# Altium schematic symbol library IC.SchLib: 114 symbols (part 3 of 3)
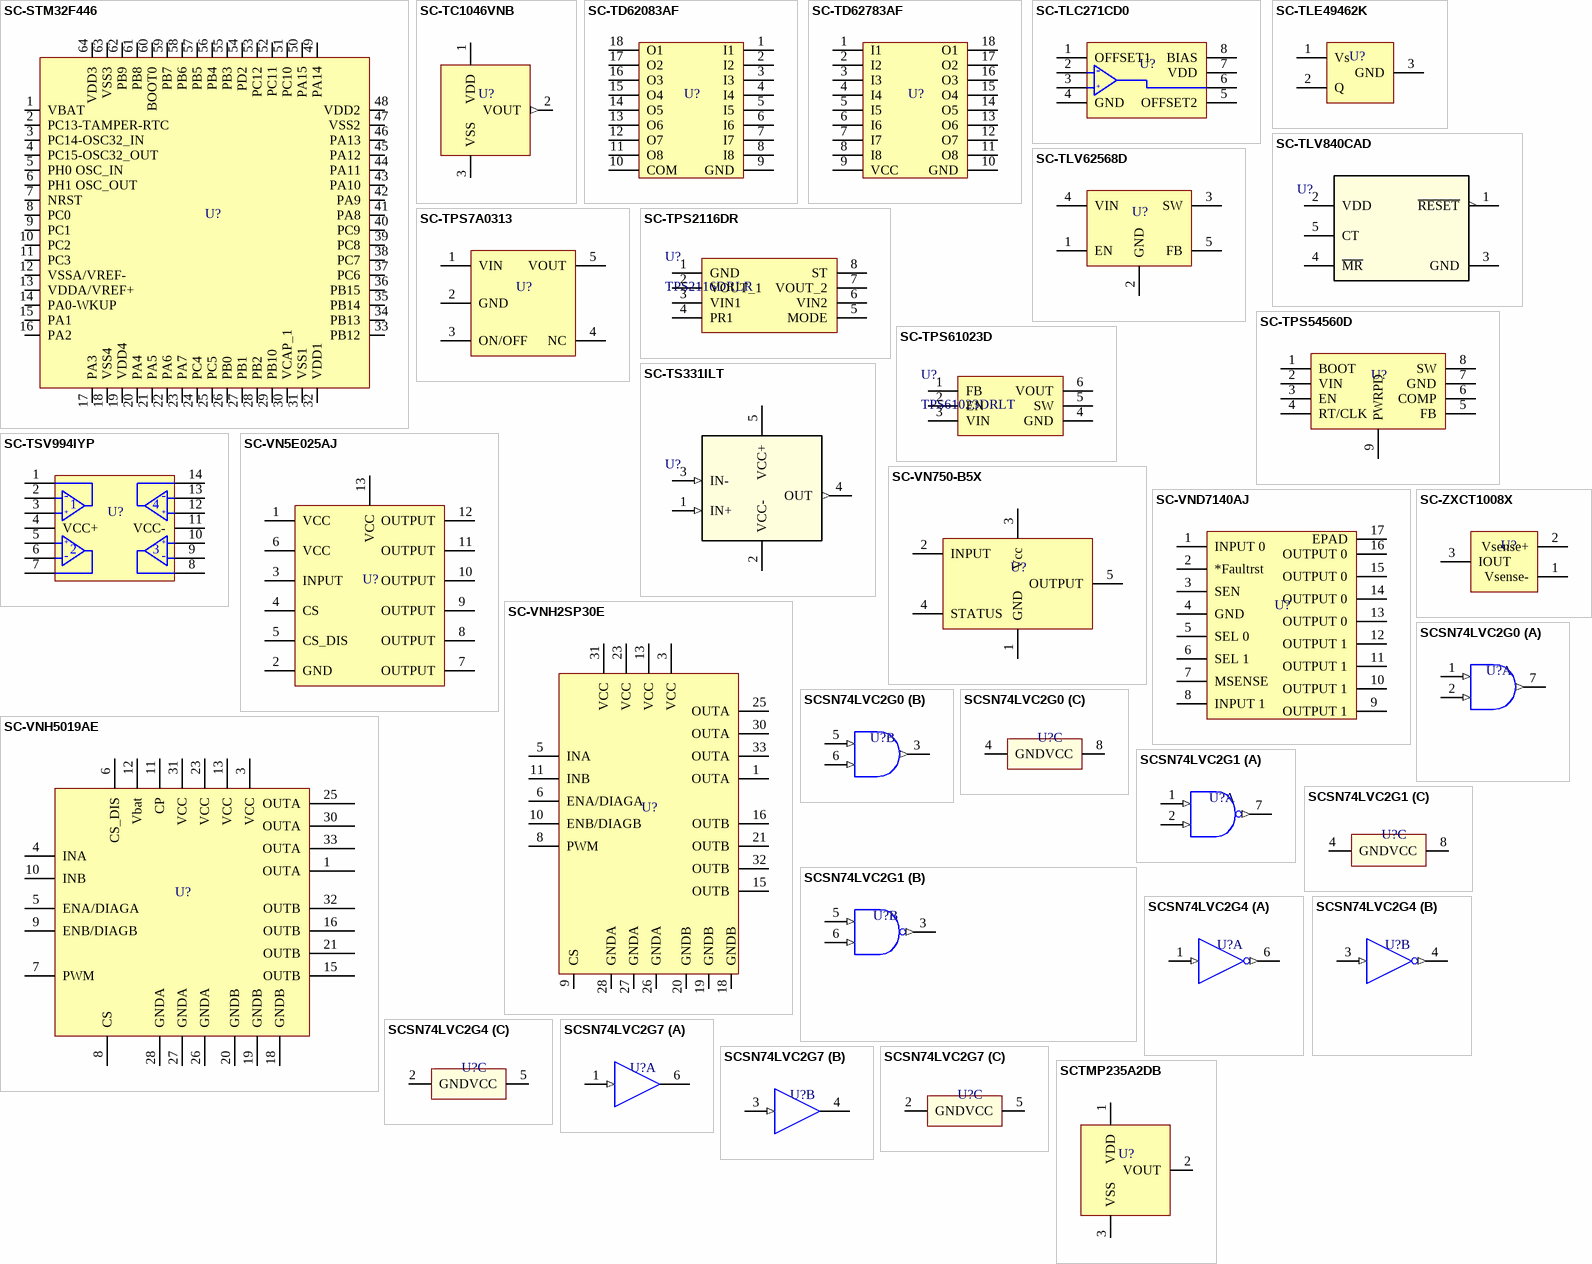
[diagram p9: symbols SC-STM32F446 to SCTMP235A2DB]

## SCSN74LVC2G4
designator U?
INVERTER GATE, 2CH; Manufacturer Part Number: SN74LVC2G04DBVR; Manufacturer: Texas Instruments; Working Temperature: -40°C ~ 125°C (TA); Temperature Coefficient: NC; Short Description: Inverter IC 2 Channel; Ratings: ROHS3; Voltage: 1.65V ~ 5.5V; Value: NC; Mounting: SMT; Power: NC; Type: NC; Frequency: NC; Alternate Part Number 1: *; Alternate Part Number 2: *; Tolerance: NC; Current: NC; Revision Date: 26/06/23; Package Reference: SOT-23
footprint SOT-23-6
part A pins: 1 1A (in), 6 1Y (out)
part B pins: 3 2A (in), 4 2Y (out)
part C pins: 2 GND (power), 5 VCC (power)

## SCSN74LVC2G7
designator U?
BUFFER NON-INVERT, 2CH, SOT23-6; Manufacturer Part Number: SN74LVC2G07DBVR; Manufacturer: Texas Instruments; Working Temperature: -40°C ~ 125°C (TA); Temperature Coefficient: NC; Short Description: Buffer, Non-Inverting 2 Element 1 Bit per Element Open Drain Output SOT-23-6; Ratings: ROHS3; Voltage: 1.65V ~ 5.5V; Value: NC; Mounting: SMT; Power: NC; Type: NC; Frequency: NC; Alternate Part Number 1: *; Alternate Part Number 2: *; Tolerance: NC; Current: NC; Revision Date: 26/06/23; Package Reference: SOT-23-6
footprint SOT-23-6
part A pins: 1 1A (in), 6 1Y (oc)
part B pins: 3 2A (in), 4 2Y (oc)
part C pins: 2 GND (power), 5 VCC (power)

## SCTMP235A2DB
designator U?  (value not drawn)
Sensores de temperatura montados en placa +/-1.2 C 2.3V to 5.5V analog output temperature sensor with 10 mV/C gain 3-SOT-23 -40 to 150; Manufacturer Part Number: TMP235A2DBZR; Manufacturer: Texas Instruments; Working Temperature: -40°C ~ 150°C; Temperature Coefficient: 10 mV/C; Short Description: SENSOR ANALOG -40C-125C SOT23-3; Power: NC; Ratings: REACH, ROHS3; Tolerance: +/- 0.5 C; Voltage: 2.3V ~ 5.5V; Value: NC; Mounting: SMT; Type: Temperature Sensor; Frequency: NC; Alternate Part Number 1: *; Alternate Part Number 2: *; Current: NC; Revision Date: 03/08/21; Package Reference: SOT-23-3
footprint SOT-23-3 (Footprint not found)
pins: 1 VDD, 2 VOUT, 3 VSS